# EAGLE library part CON8P2R (library ads4)
8-pin dual-row connector
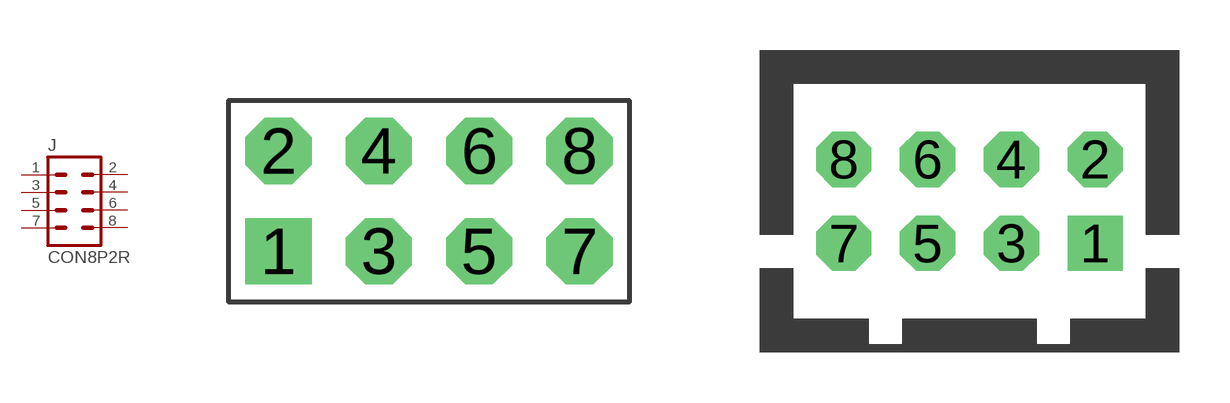
[diagram p32: symbol with the pads of CON8P2R; footprints CON8P2R, DF1B-8P2R]

Designator prefix J

## CON8P2R8P2R  [CON8P2R]
1  1  pas
2  2  pas
3  3  pas
4  4  pas
5  5  pas
6  6  pas
7  7  pas
8  8  pas

## CON8P2RDF1B  [DF1B-8P2R]
Pads as for CON8P2R

## CON8P2RDF11-8DP  [DF11-8DP-2DS]
Pads as for CON8P2R

## CON8P2RDF1B-8DP2R  [DF1B-8DP2R]
Pads as for CON8P2R

## CON8P2RPA8SO1-2006-6  [PA8SO1-2006-6]
Pads as for CON8P2R

## Footprint CON8P2R (pad centres in mm)
8-Pin dual-row connector
drill 1.016 pad 1.676 square: 1 -3.81,-1.27
drill 1.016 pad 1.676 octagon: 2 -3.81,1.27; 3 -1.27,-1.27; 4 -1.27,1.27; 5 1.27,-1.27; 6 1.27,1.27; 7 3.81,-1.27; 8 3.81,1.27

## Footprint DF1B-8P2R (pad centres in mm)
Hirose 2.5mm DF1B 8-pin dual-row connector
drill 1.1 square: 1 3.75,-1.25
drill 1.1 octagon: 2 3.75,1.25; 3 1.25,-1.25; 4 1.25,1.25; 5 -1.25,-1.25; 6 -1.25,1.25; 7 -3.75,-1.25; 8 -3.75,1.25

## Footprint DF11-8DP-2DS (pad centres in mm)
Hirose 2mm right-angle 8-pin dual-row shrouded header
drill 0.813 square: 1 3,-1
drill 0.813 octagon: 2 3,1; 3 1,-1; 4 1,1; 5 -1,-1; 6 -1,1; 7 -3,-1; 8 -3,1

## Footprint DF1B-8DP2R (pad centres in mm)
Hirose DF1B Dual-Row Right-Angle 2.5mm connector
drill 1.1 square: 1 3.75,-1.25
drill 1.1 octagon: 2 3.75,1.25; 3 1.25,-1.25; 4 1.25,1.25; 5 -1.25,-1.25; 6 -1.25,1.25; 7 -3.75,-1.25; 8 -3.75,1.25

## Footprint PA8SO1-2006-6 (pad centres in mm)
Logical Systems PA8SO1-2006-6 8-pin SOIC adapter 8-SOIC 5.3mm wide 1.27mm lead pitch --> 8-pin 0.6" DIP
drill 1.1 long: 1 -7.62,3.81; 2 -7.62,1.27; 3 -7.62,-1.27; 4 -7.62,-3.81; 5 7.62,-3.81; 6 7.62,-1.27; 7 7.62,1.27; 8 7.62,3.81